# Altium footprint library DIP-Q  0607.PCBlib: 66 footprints (part 2 of 5)
Each footprint in its own frame and in the unit in brackets; x right, y up, seen from the top. Pads: shape width x height; smd on the part's side, far side on the other; paste and mask are expansions set on the pad; w line width, h text height; cw(c..) or ccw(c..) is an arc to the next point about the centre after c.
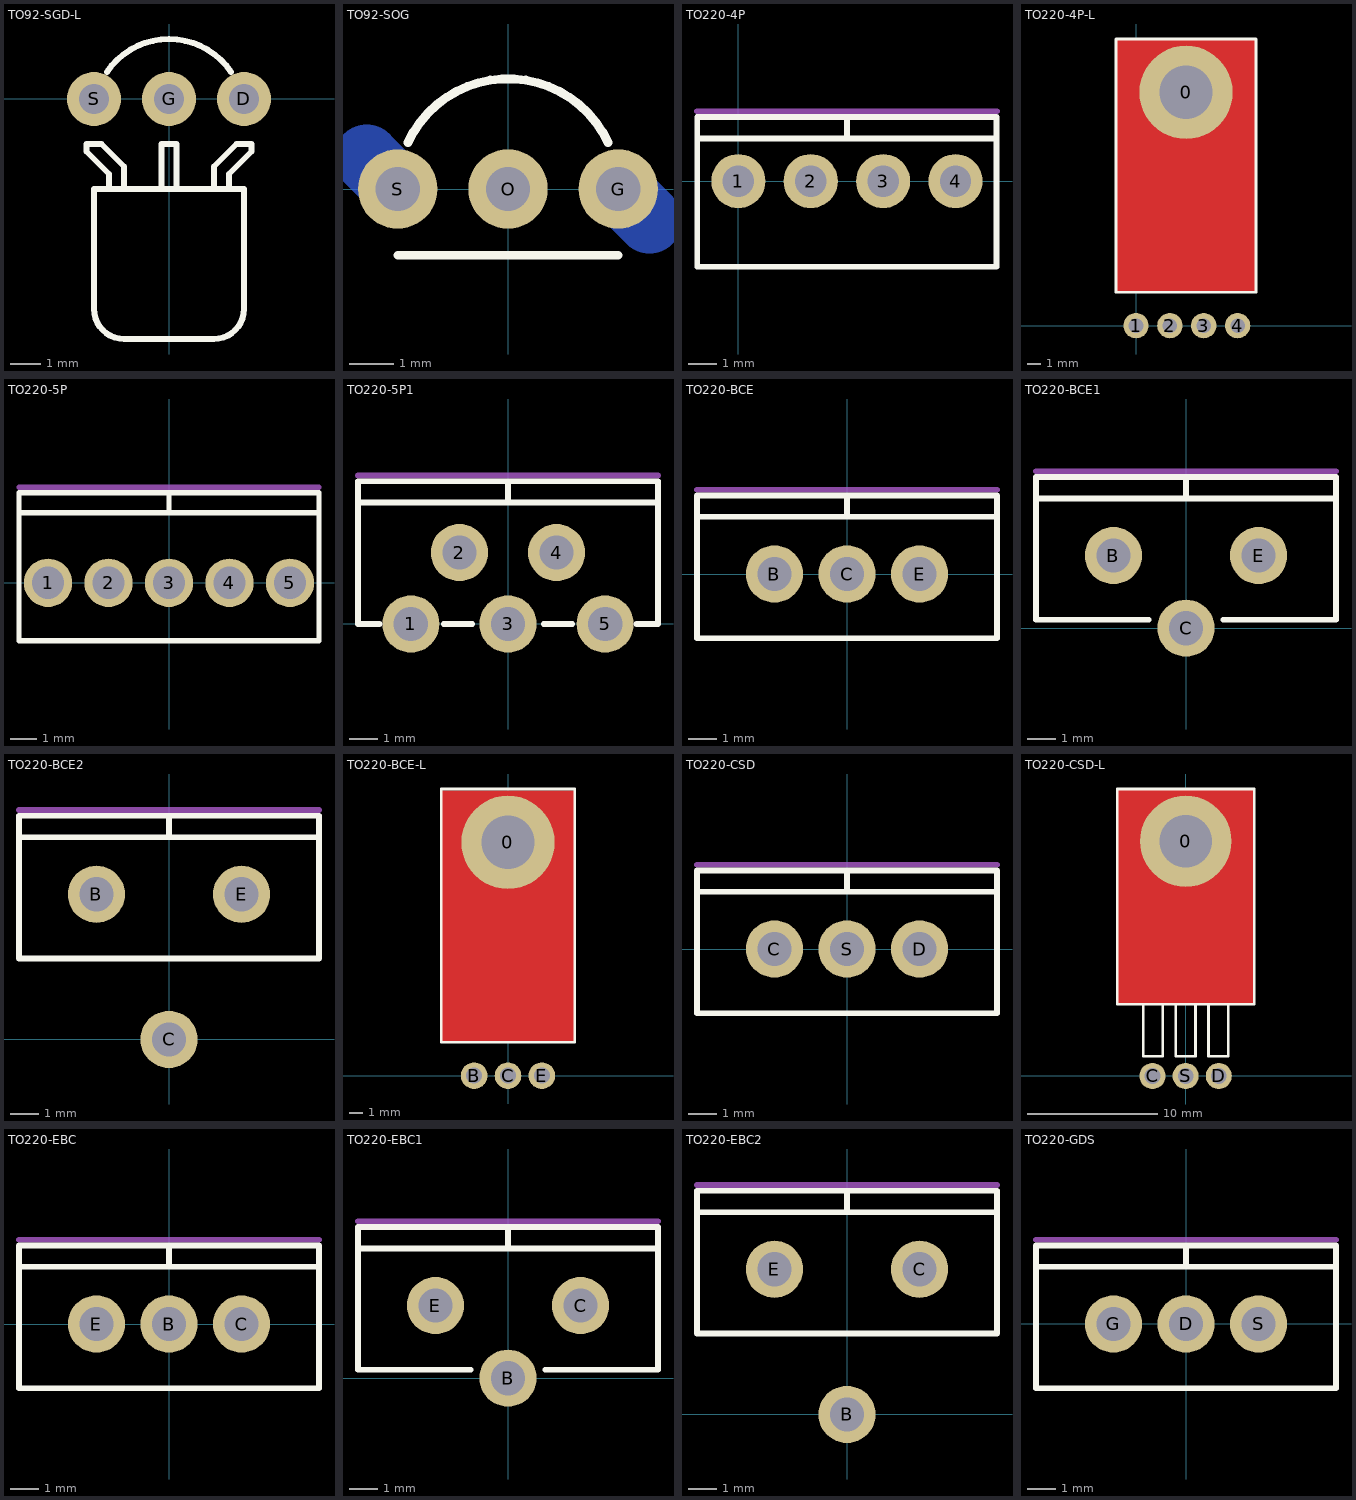
[diagram p1: the footprints below, top view; thin cyan lines are the x and y axes]

## TO92-SGD-L [mm]
height 4.2
pads (3):
  round 1.8 hole 1: D(2.5,0) G(0,0) S(-2.5,0)
Top Overlay:
  lines w0.2: -2.073,0.898 cw(c0,-0.5) 2.073,0.898 ; -0.25,-3 -0.25,-1.5 0.25,-1.5 0.25,-3 ; -2.75,-1.75 -2.75,-1.5 -2.25,-1.5 -1.5,-2.25 -1.5,-3 -2,-3 -2,-2.5 -2.75,-1.75 ; -2.5,-7 ccw(c-1.5,-7) -1.5,-8 1.5,-8 ccw(c1.5,-7) 2.5,-7 2.5,-3 -2.5,-3 -2.5,-7 ; 1.5,-3 2,-3 2,-2.5 2.75,-1.75 2.75,-1.5 2.25,-1.5 1.5,-2.25 1.5,-3
Bottom Overlay:
  lines w0.4: -1.25,-1 -1.25,1 ; 1.25,-1 1.25,1

## TO92-SOG [mm]
height 10.4
pads (3):
  round 1.8 hole 1: G(2.5,0) O(0,0) S(-2.5,0)
Bottom Layer:
  lines w1.5: -3.207,0.707 -2.5,0 ; 2.5,0 3.207,-0.707
Top Overlay:
  lines w0.2: -2.5,-1.5 2.5,-1.5 ; -2.266,1.057 cw(c0,0) 2.266,1.057
Bottom Overlay:
  lines w0.4: -1.25,-1 -1.25,1 ; 1.25,-1 1.25,1
Bottom Solder:
  lines w1: -3.207,0.707 -2.5,0 ; 2.5,0 3.207,-0.707

## TO220-4P [mm]
height 19.7
pads (4):
  round 1.9 hole 1.1: 1(0,0) 2(2.54,0) 3(5.08,0) 4(7.62,0)
Top Overlay:
  lines w0.2: -1.44,1.5 9.06,1.5 ; 3.81,1.5 3.81,2.25 ; -1.44,-3 -1.44,2.25 9.06,2.25 9.06,-3 -1.44,-3
Bottom Overlay:
  lines w0.3: 1.27,-1 1.27,1 ; 3.81,-1 3.81,1 ; 6.35,-1 6.35,1
Mechanical 7:
  lines w0.2: -1.45,2.45 9.075,2.45

## TO220-4P-L [mm]
height 4.6
pads (5):
  round 7 hole 4: 0(3.75,17.5)
  round 1.9 hole 1.1: 1(0,0) 2(2.54,0) 3(5.08,0) 4(7.62,0)
Top Layer:
  rectangle: -1.5,2.5 9,21.5
Top Overlay:
  lines w0.2: -1.5,2.5 -1.5,21.5 9,21.5 9,2.5 -1.5,2.5
Bottom Overlay:
  lines w0.3: 1.27,-1 1.27,1 ; 3.81,-1 3.81,1 ; 6.35,-1 6.35,1

## TO220-5P [mm]
height 19.7
pads (5):
  round 1.8 hole 1.2: 1(-4.5,0) 2(-2.25,0) 3(0,0) 4(2.25,0) 5(4.5,0)
Top Overlay:
  lines w0.2: -5.58,2.6 5.58,2.6 ; 0,2.6 0,3.35 ; -5.58,-2.15 -5.58,3.35 5.58,3.35 5.58,-2.15 -5.58,-2.15
Bottom Overlay:
  lines w0.2: -3.375,-1 -3.375,1 ; -1.125,-1 -1.125,1 ; 1.125,-1 1.125,1 ; 3.375,-1 3.375,1
Mechanical 7:
  lines w0.2: -5.575,3.55 5.575,3.55

## TO220-5P1 [mm]
height 19.7
pads (5):
  round 2 hole 1.2: 1(-3.4,0) 2(-1.7,2.5) 3(0,0) 4(1.7,2.5) 5(3.4,0)
Top Overlay:
  lines w0.2: -5.25,4.25 5.25,4.25 ; -4.5,0 -5.25,0 -5.25,5 5.25,5 5.25,0 4.5,0 ; -2.25,0 -1.25,0 ; 0,4.25 0,5 ; 1.25,0 2.25,0
Mechanical 7:
  lines w0.2: -5.25,5.2 5.25,5.2

## TO220-BCE [mm]
height 19.7
pads (3):
  round 2 hole 1.2: B(-2.54,0) C(0,0) E(2.54,0)
Top Overlay:
  lines w0.2: -5.25,2 5.25,2 ; 0,2 0,2.75 ; -5.25,-2.25 5.25,-2.25 5.25,2.75 -5.25,2.75 -5.25,-2.25
Bottom Overlay:
  lines w0.3: -1.27,-1 -1.27,1 ; 1.27,-1 1.27,1
Mechanical 7:
  lines w0.2: -5.25,2.95 5.25,2.95

## TO220-BCE1 [mm]
height 19.7
pads (3):
  round 2 hole 1.2: B(-2.54,2.54) C(0,0) E(2.54,2.54)
Top Overlay:
  lines w0.2: -5.25,4.54 5.25,4.54 ; -1.3,0.29 -5.25,0.29 -5.25,5.29 5.25,5.29 5.25,0.29 1.3,0.29 ; 0,4.54 0,5.29
Mechanical 7:
  lines w0.2: -5.25,5.49 5.25,5.49

## TO220-BCE2 [mm]
height 19.7
pads (3):
  round 2 hole 1.2: B(-2.54,5.08) C(0,0) E(2.54,5.08)
Top Overlay:
  lines w0.2: -5.25,7.08 5.25,7.08 ; 0,7.08 0,7.83 ; -5.25,2.83 5.25,2.83 5.25,7.83 -5.25,7.83 -5.25,2.83
Mechanical 7:
  lines w0.2: -5.25,8.03 5.25,8.03

## TO220-BCE-L [mm]
height 5
pads (4):
  round 7 hole 4: 0(0,17.5)
  round 2 hole 1.2: B(-2.54,0) C(0,0) E(2.54,0)
Top Layer:
  rectangle: -5,2.5 5,21.4
Top Overlay:
  lines w0.2: -5,2.5 -5,21.5 5,21.5 5,2.5 -5,2.5
Bottom Overlay:
  lines w0.3: -1.27,-1 -1.27,1 ; 1.27,-1 1.27,1

## TO220-CSD [mm]
height 19.7
pads (3):
  round 2 hole 1.2: C(-2.54,0) D(2.54,0) S(0,0)
Top Overlay:
  lines w0.2: -5.25,2 5.25,2 ; 0,2 0,2.75 ; -5.25,-2.25 -5.25,2.75 5.25,2.75 5.25,-2.25 -5.25,-2.25
Bottom Overlay:
  lines w0.3: -1.27,-1 -1.27,1 ; 1.27,-1 1.27,1
Mechanical 7:
  lines w0.2: -5.25,2.95 5.25,2.95

## TO220-CSD-L [mm]
height 4.6
pads (4):
  round 7 hole 4: 0(0.007,17.999)
  round 2 hole 1.2: C(-2.54,0) D(2.54,0) S(0,0)
Top Layer:
  rectangle: -5.2,5.5 5.3,22
Top Overlay:
  lines w0.2: -3.25,5.5 -3.25,1.5 -1.75,1.5 -1.75,5.5 ; -0.75,5.5 -0.75,1.5 0.75,1.5 0.75,5.5 ; 1.75,5.5 1.75,1.5 3.25,1.5 3.25,5.5 ; -5.25,5.5 5.25,5.5 5.25,21.999 -5.25,21.999 -5.25,5.5
Bottom Overlay:
  lines w0.3: -1.25,-1 -1.25,1 ; 1.25,-1 1.25,1

## TO220-EBC [mm]
height 19.7
pads (3):
  round 2 hole 1.2: B(0,0) C(2.54,0) E(-2.54,0)
Top Overlay:
  lines w0.2: -5.25,2 5.25,2 ; 0,2 0,2.75 ; -5.25,-2.25 -5.25,2.75 5.25,2.75 5.25,-2.25 -5.25,-2.25
Bottom Overlay:
  lines w0.3: -1.27,-1 -1.27,1 ; 1.27,-1 1.27,1
Mechanical 7:
  lines w0.2: -5.25,2.95 5.25,2.95

## TO220-EBC1 [mm]
height 19.7
pads (3):
  round 2 hole 1.2: B(0,0) C(2.54,2.54) E(-2.54,2.54)
Top Overlay:
  lines w0.2: -5.25,4.54 5.25,4.54 ; -1.3,0.29 -5.25,0.29 -5.25,5.29 5.25,5.29 5.25,0.29 1.3,0.29 ; 0,4.54 0,5.29
Mechanical 7:
  lines w0.2: -5.25,5.49 5.25,5.49

## TO220-EBC2 [mm]
height 19.7
pads (3):
  round 2 hole 1.2: B(0,0) C(2.54,5.08) E(-2.54,5.08)
Top Overlay:
  lines w0.2: -5.25,7.08 5.25,7.08 ; 0,7.08 0,7.83 ; -5.25,2.83 5.25,2.83 5.25,7.83 -5.25,7.83 -5.25,2.83
Mechanical 7:
  lines w0.2: -5.25,8.03 5.25,8.03

## TO220-GDS [mm]
height 19.7
pads (3):
  round 2 hole 1.2: D(0,0) G(-2.54,0) S(2.54,0)
Top Overlay:
  lines w0.2: -5.25,2 5.25,2 ; 0,2 0,2.75 ; -5.25,-2.25 -5.25,2.75 5.25,2.75 5.25,-2.25 -5.25,-2.25
Bottom Overlay:
  lines w0.3: -1.27,-1 -1.27,1 ; 1.27,-1 1.27,1
Mechanical 7:
  lines w0.2: -5.25,2.95 5.25,2.95